# EAGLE library part DW1000 (library custom-devices)
DecaWave Ultra-Wide Band Transceiver
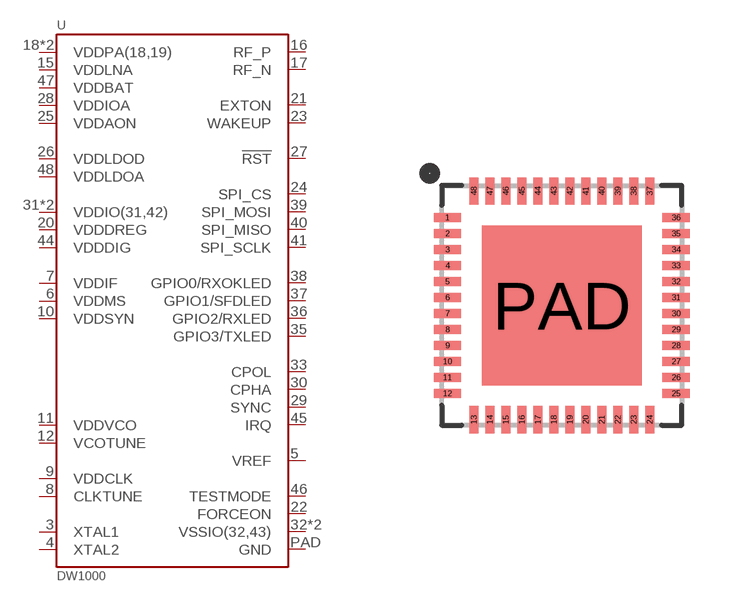
[diagram p6: symbol with the pads of QFN48_6X6; footprint QFN48_6X6]

Designator prefix U

## DW1000 (DIGI-KEY: 1479-1001-1-ND)  [QFN48_6X6]
3  XTAL1
4  XTAL2
5  VREF
6  VDDMS
7  VDDIF
8  CLKTUNE
9  VDDCLK
10  VDDSYN
11  VDDVCO
12  VCOTUNE
15  VDDLNA
16  RF_P
17  RF_N
18  VDDPA(18,19)
19  VDDPA(18,19)
20  VDDDREG
21  EXTON
22  FORCEON
23  WAKEUP
24  SPI_CS
25  VDDAON
26  VDDLDOD
27  !RST
28  VDDIOA
29  SYNC
30  CPHA
31  VDDIO(31,42)
32  VSSIO(32,43)
33  CPOL
35  GPIO3/TXLED
36  GPIO2/RXLED
37  GPIO1/SFDLED
38  GPIO0/RXOKLED
39  SPI_MOSI
40  SPI_MISO
41  SPI_SCLK
42  VDDIO(31,42)
43  VSSIO(32,43)
44  VDDDIG
45  IRQ
46  TESTMODE
47  VDDBAT
48  VDDLDOA
PAD  GND

## Footprint QFN48_6X6 (pad centres in mm)
smd 0.68 x 0.22: 1 -2.86,2.2; 2 -2.86,1.8; 3 -2.86,1.4; 4 -2.86,1; 5 -2.86,0.6; 6 -2.86,0.2; 7 -2.86,-0.2; 8 -2.86,-0.6; 9 -2.86,-1; 10 -2.86,-1.4; 11 -2.86,-1.8; 12 -2.86,-2.2; 25 2.86,-2.2; 26 2.86,-1.8; 27 2.86,-1.4; 28 2.86,-1; 29 2.86,-0.6; 30 2.86,-0.2; 31 2.86,0.2; 32 2.86,0.6; 33 2.86,1; 34 2.86,1.4; 35 2.86,1.8; 36 2.86,2.2
smd 0.22 x 0.68: 13 -2.2,-2.86; 14 -1.8,-2.86; 15 -1.4,-2.86; 16 -1,-2.86; 17 -0.6,-2.86; 18 -0.2,-2.86; 19 0.2,-2.86; 20 0.6,-2.86; 21 1,-2.86; 22 1.4,-2.86; 23 1.8,-2.86; 24 2.2,-2.86; 37 2.2,2.86; 38 1.8,2.86; 39 1.4,2.86; 40 1,2.86; 41 0.6,2.86; 42 0.2,2.86; 43 -0.2,2.86; 44 -0.6,2.86; 45 -1,2.86; 46 -1.4,2.86; 47 -1.8,2.86; 48 -2.2,2.86
smd 4 x 4: PAD 0,0